# Altium schematic symbol library Voltage Level Translator.SchLib: 11 symbols
Pins are listed as number, name and electrical type; pins without a type are passive.

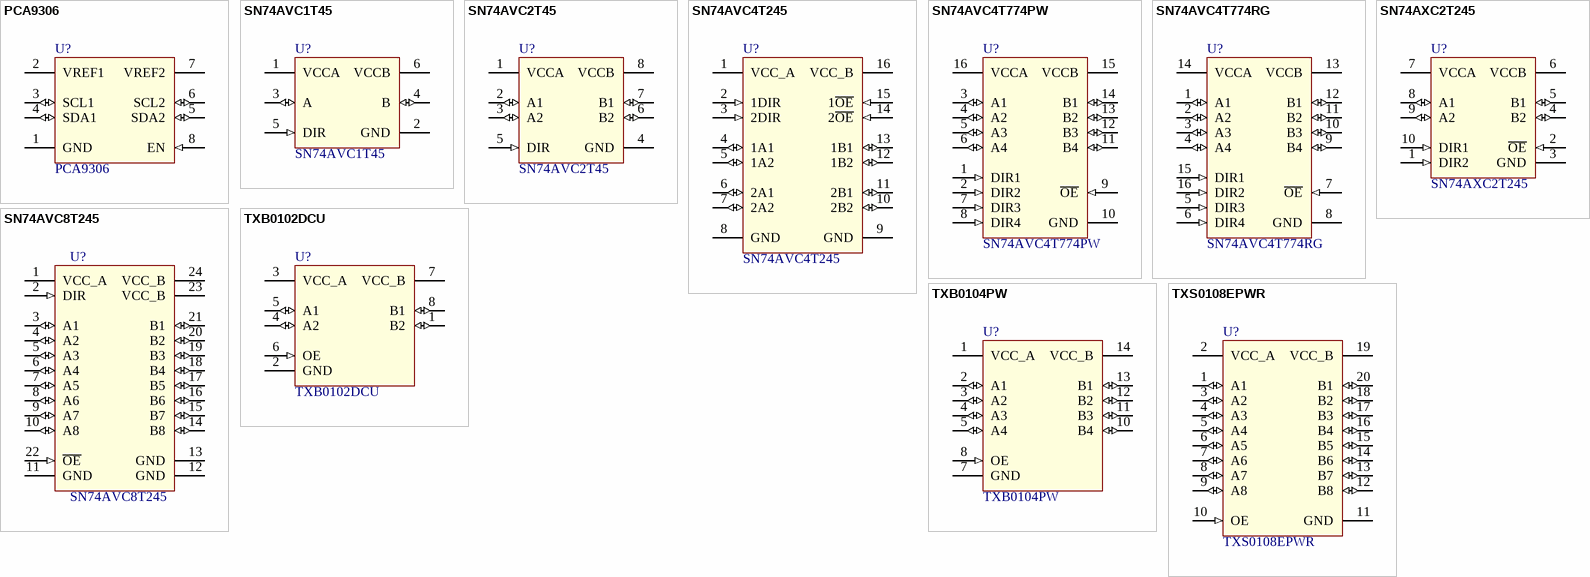
[diagram p0: symbols PCA9306 to TXS0108EPWR]

## PCA9306
designator U?
PCA9306 Dual Bidirectional I2C Bus and SMBus Voltage-Level Translator; value: PCA9306
footprint SSOP-8 (SSOP, 8-Leads, Body 2.95x2.80mm, Pitch 0.65mm, IPC Medium Density)
pins: 1 GND (power), 2 VREF1 (power), 3 SCL1 (io), 4 SDA1 (io), 5 SDA2 (io), 6 SCL2 (io), 7 VREF2 (power), 8 EN (in)

## SN74AVC1T45
designator U?
SN74AVC4T245 Dual-Bit Bus Transceiver with Configurable Voltage Translation and 3-State Outputs; value: SN74AVC1T45
footprint SOT-23-6 (SOT23, 6-Leads, Body 2.9x1.6mm, Pitch 0.95mm, Lead Span 2.8mm, IPC Medium Density)
pins: 1 VCCA (power), 2 GND (power), 3 A (io), 4 B (io), 5 DIR (in), 6 VCCB (power)

## SN74AVC2T45
designator U?
SN74AVC4T245 Dual-Bit Bus Transceiver with Configurable Voltage Translation and 3-State Outputs; value: SN74AVC2T45
footprint TSSOP-8 (Shrink Small Outline; 8 Leads; Body Width 4.4 mm; Pitch 0.65 mm)
pins: 1 VCCA (power), 2 A1 (io), 3 A2 (io), 4 GND (power), 5 DIR (in), 6 B2 (io), 7 B1 (io), 8 VCCB (power)

## SN74AVC4T245
designator U?
SN74AVC4T245 Dual-Bit Bus Transceiver with Configurable Voltage Translation and 3-State Outputs; value: SN74AVC4T245
footprint TSSOP-16 (PW0016A) (TSSOP, 16-Leads, Body 5.00x4.40mm, Pitch 0.65mm, IPC Medium Density)
pins: 1 VCC_A (power), 2 1DIR (in), 3 2DIR (in), 4 1A1 (io), 5 1A2 (io), 6 2A1 (io), 7 2A2 (io), 8 GND (power), 9 GND (power), 10 2B2 (io), 11 2B1 (io), 12 1B2 (io), 13 1B1 (io), 14 2~{OE} (in), 15 1~{OE} (in), 16 VCC_B (power)

## SN74AVC4T774PW
designator U?
4-Bit Dual-Supply Bus Transceiver With Configurable Voltage-Level Shifting and 3-State Outputs; value: SN74AVC4T774
footprint TSSOP-16 (PW0016A) (TSSOP, 16-Leads, Body 5.00x4.40mm, Pitch 0.65mm, IPC Medium Density)
pins: 1 DIR1 (in), 2 DIR2 (in), 3 A1 (io), 4 A2 (io), 5 A3 (io), 6 A4 (io), 7 DIR3 (in), 8 DIR4 (in), 9 ~{OE} (in), 10 GND (power), 11 B4 (io), 12 B3 (io), 13 B2 (io), 14 B1 (io), 15 VCCB (power), 16 VCCA (power)

## SN74AVC4T774RG
designator U?
4-Bit Dual-Supply Bus Transceiver With Configurable Voltage-Level Shifting and 3-State Outputs; value: SN74AVC4T774
footprint QFN-16-3X3 (QFN, 16-Leads, Body 3,00x3,00mm, Pitch 0,50mm, Thermal Pad 1,68x1,68mm, IPC Low Density)
pins: 1 A1 (io), 2 A2 (io), 3 A3 (io), 4 A4 (io), 5 DIR3 (in), 6 DIR4 (in), 7 ~{OE} (in), 8 GND (power), 9 B4 (io), 10 B3 (io), 11 B2 (io), 12 B1 (io), 13 VCCB (power), 14 VCCA (power), 15 DIR1 (in), 16 DIR2 (in)

## SN74AVC8T245
designator U?
SN74AVC8T245 8-Bit Dual-Supply Bus Transceiver With Configurable Voltage Translation  and 3-State Outputs; value: SN74AVC8T245
footprint TSSOP-24 (Shrink Small Outline; 24 Leads; Body Width 4.4 mm; Pitch 0.65 mm)
pins: 1 VCC_A (power), 2 DIR (in), 3 A1 (io), 4 A2 (io), 5 A3 (io), 6 A4 (io), 7 A5 (io), 8 A6 (io), 9 A7 (io), 10 A8 (io), 11 GND (power), 12 GND (power), 13 GND (power), 14 B8 (io), 15 B7 (io), 16 B6 (io), 17 B5 (io), 18 B4 (io), 19 B3 (io), 20 B2 (io), 21 B1 (io), 22 ~{OE} (in), 23 VCC_B (power), 24 VCC_B (power)

## SN74AXC2T245
designator U?
SN74AXC2T245 2-Bit Dual-Supply Bus Transceiver with Configurable  Voltage Translation and Tri-State Outputs; Value: SN74AXC2T245
footprint UQFN-10 (RSW0010A) (Footprint not found)
pins: 1 DIR2 (in), 2 ~{OE} (in), 3 GND (power), 4 B2 (io), 5 B1 (io), 6 VCCB (power), 7 VCCA (power), 8 A1 (io), 9 A2 (io), 10 DIR1 (in)

## TXB0102DCU
designator U?
TXB0102 2-Bit Bidirectional Voltage-level Translator With Automatic Direction Sensing  and ±15-kV ESD Protection
pins: 1 B2 (io), 2 GND (power), 3 VCC_A (power), 4 A2 (io), 5 A1 (io), 6 OE (in), 7 VCC_B (power), 8 B1 (io)

## TXB0104PW
designator U?
TXB0104 4-Bit Bidirectional Voltage-level Translator With Automatic Direction Sensing  and ±15-kV ESD Protection
pins: 1 VCC_A (power), 2 A1 (io), 3 A2 (io), 4 A3 (io), 5 A4 (io), 7 GND (power), 8 OE (in), 10 B4 (io), 11 B3 (io), 12 B2 (io), 13 B1 (io), 14 VCC_B (power)

## TXS0108EPWR
designator U?
8-Bit Bi-directional, Level-Shifting, Voltage Translator  for Open-Drain and Push-Pull Applications; value: TXS0108EPWR
footprint TSSOP-20 (Shrink Small Outline; 20 Leads; Body Width 4.4 mm; Pitch 0.65 mm)
pins: 1 A1 (io), 2 VCC_A (power), 3 A2 (io), 4 A3 (io), 5 A4 (io), 6 A5 (io), 7 A6 (io), 8 A7 (io), 9 A8 (io), 10 OE (in), 11 GND (power), 12 B8 (io), 13 B7 (io), 14 B6 (io), 15 B5 (io), 16 B4 (io), 17 B3 (io), 18 B2 (io), 19 VCC_B (power), 20 B1 (io)